# Altium integrated library Analog Devices Data Converters Digital-to-Analog Converters.IntLib: 2231 symbols (part 145 of 181)
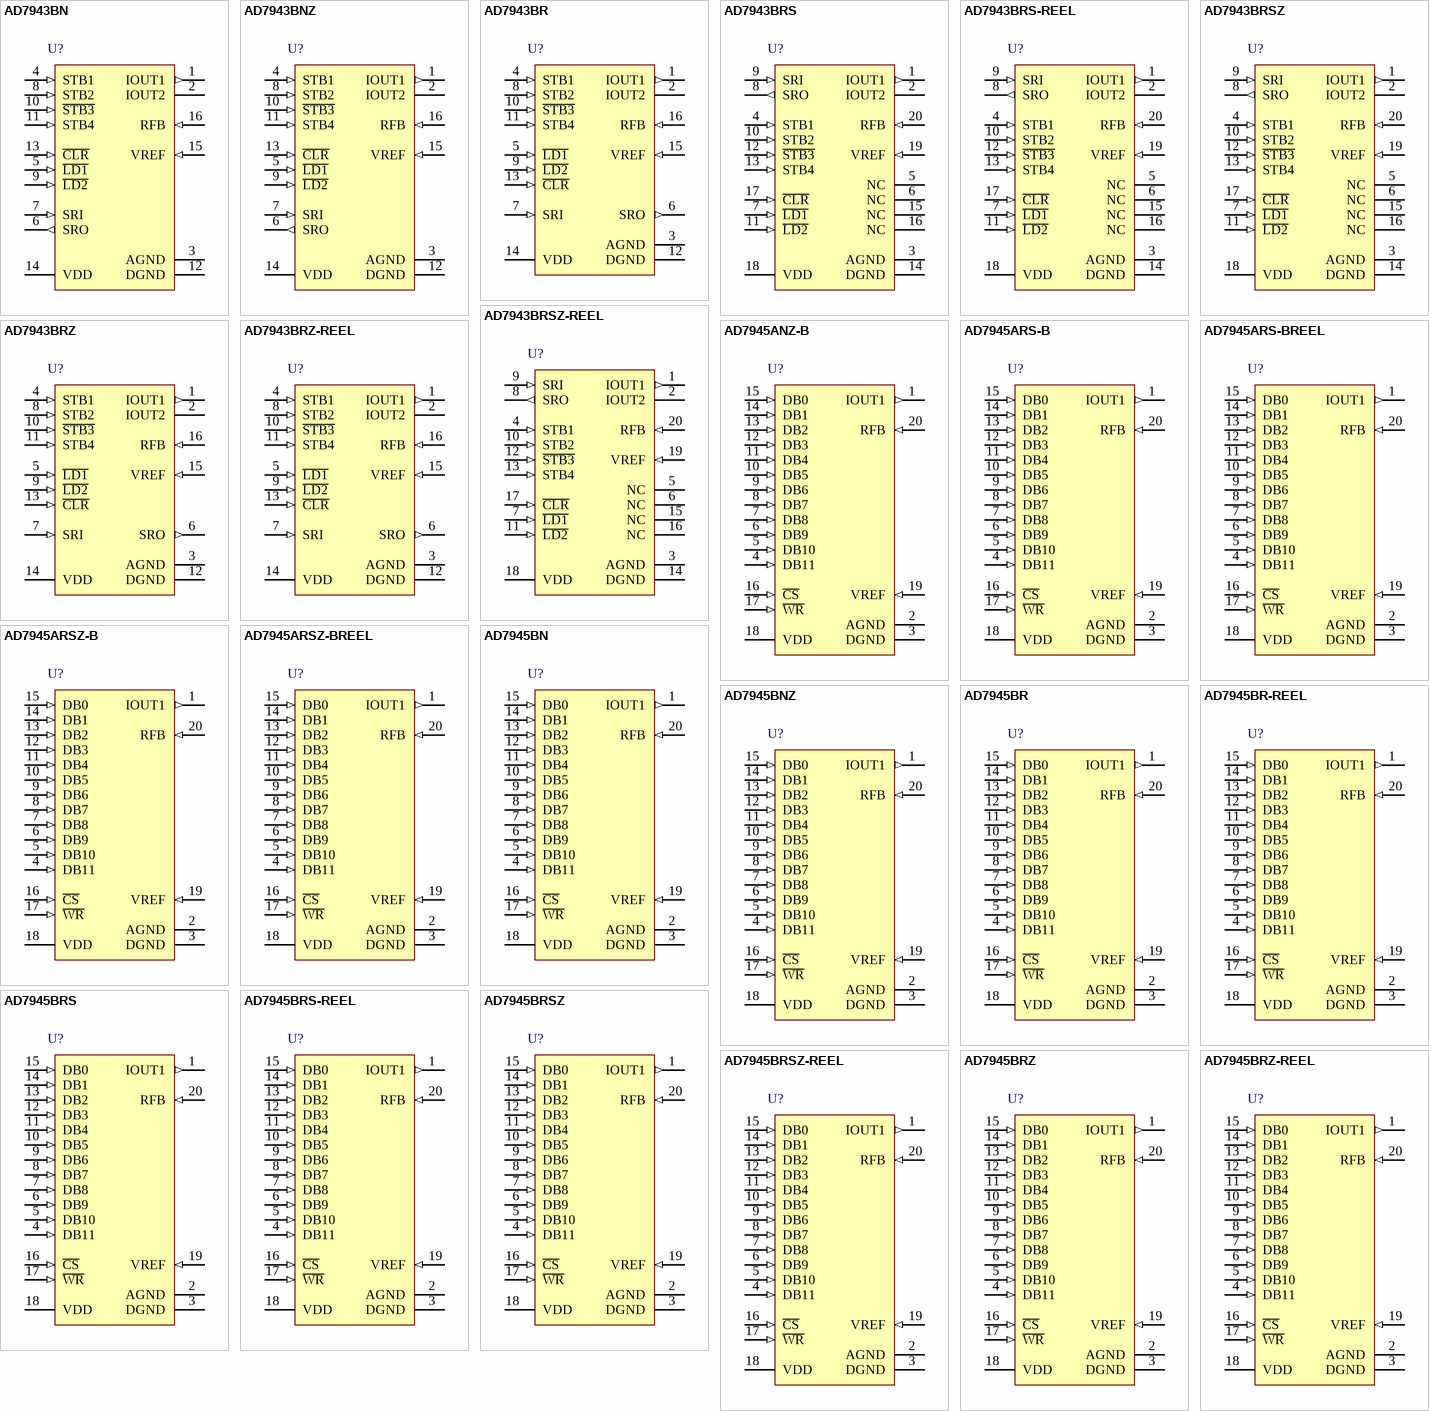
[diagram p258: symbols AD7943BN to AD7945BRZ-REEL]

## AD7945BRS-REEL
designator U?
Single 12-Bit Multiplying Digital-to-Analog Converter, 3.3 V / 5 V, -40 to +85 degC, RS-20, Reel; Generic Part Number: AD7945; Manufacturer: Analog Devices; PartNumber: AD7945BRS-REEL; # DAC Outputs: 1; Max V+: 5.5V; Op Pwr Diss: 25µW; Resolution (Bits): 12; Settling Time: 600ns; Single Supply: Yes; DatasheetVersion: Rev.B; PackageVersion: Mar-2003; PackageReference: RS-20; PackageDescription: 20-Lead Shrink Small Outline Package [SSOP]; Supplier 1: Digi-Key; Supplier Part Number 1: AD7945BRS-REEL-ND; Supplier 2: Newark; Supplier Part Number 2: 09B6310; Supplier 3: Mouser; Supplier Part Number 3: 584-AD7945BRS-R; Packing: Reel; RoHS: N; Mounting Technology: Surface Mount; Code_JEDEC: MO-150AE; ComponentLink1Description: Manufacturer URL; ComponentLink1URL: http://www.analog.com/en/index.html; ComponentLink2Description: Datasheet; ComponentLink2URL: http://www.analog.com/static/imported-files/data_sheets/AD7943_7945_7948.pdf; ComponentLink3Description: Package Specification; ComponentLink3URL: http://www.analog.com/static/imported-files/packages/318405805657546556503576154334802686596RS_20.pdf; ComponentLink4Description: Product URL; ComponentLink4URL: http://www.analog.com/en/digital-to-analog-converters/da-converters/ad7945/products/product.html
footprint RS-20_N (SOP, 20-Leads, Body 7.2x5.3mm, Pitch 0.65mm, IPC Medium Density)
footprint RS-20_L (SOP, 20-Leads, Body 7.2x5.3mm, Pitch 0.65mm, IPC High Density)
footprint RS-20_M (SOP, 20-Leads, Body 7.2x5.3mm, Pitch 0.65mm, IPC Low Density)
pins: 1 IOUT1 (out) "DAC current output terminal 1.", 2 AGND (power) "This pin connects to the back gates of the current steering switches. The DAC IOUT2 terminal is also connected internally to this point.", 3 DGND (power) "Digital Ground.", 4 DB11 (in) "Digital Data Input.", 5 DB10 (in) "Digital Data Input.", 6 DB9 (in) "Digital Data Input.", 7 DB8 (in) "Digital Data Input.", 8 DB7 (in) "Digital Data Input.", 9 DB6 (in) "Digital Data Input.", 10 DB5 (in) "Digital Data Input.", 11 DB4 (in) "Digital Data Input.", 12 DB3 (in) "Digital Data Input.", 13 DB2 (in) "Digital Data Input.", 14 DB1 (in) "Digital Data Input.", 15 DB0 (in) "Digital Data Input.", 16 ~{CS} (in) "Active Low, Chip Select Input.", 17 ~{WR} (in) "Active Low, Write Input.", 18 VDD (power) "Power supply input. This is nominally +5 V for Normal Mode Operation and +3.3 V to +5 V for Biased Mode Operation.", 19 VREF (in) "DAC reference input.", 20 RFB (in) "DAC feedback resistor pin."

## AD7945BRSZ
designator U?
Single 12-Bit Multiplying Digital-to-Analog Converter, 3.3 V / 5 V, 0 to +70 degC, RS-20, Pb-Free, Tube; Generic Part Number: AD7945; Manufacturer: Analog Devices; PartNumber: AD7945BRSZ; # DAC Outputs: 1; Max V+: 5.5V; Op Pwr Diss: 25µW; Resolution (Bits): 12; Settling Time: 600ns; Single Supply: Yes; DatasheetVersion: Rev.B; PackageVersion: Mar-2003; PackageReference: RS-20; PackageDescription: 20-Lead Shrink Small Outline Package [SSOP]; Supplier 1: Digi-Key; Supplier Part Number 1: AD7945BRSZ-ND; Supplier 2: Farnell; Supplier Part Number 2: 2305692; Supplier 3: Newark; Supplier Part Number 3: 59K6071; Supplier 4: Mouser; Supplier Part Number 4: 584-AD7945BRSZ; Packing: Tube; RoHS: Y; Mounting Technology: Surface Mount; Code_JEDEC: MO-150AE; ComponentLink1Description: Manufacturer URL; ComponentLink1URL: http://www.analog.com/en/index.html; ComponentLink2Description: Datasheet; ComponentLink2URL: http://www.analog.com/static/imported-files/data_sheets/AD7943_7945_7948.pdf; ComponentLink3Description: Package Specification; ComponentLink3URL: http://www.analog.com/static/imported-files/packages/318405805657546556503576154334802686596RS_20.pdf; ComponentLink4Description: Product URL; ComponentLink4URL: http://www.analog.com/en/digital-to-analog-converters/da-converters/ad7945/products/product.html
footprint RS-20_N (SOP, 20-Leads, Body 7.2x5.3mm, Pitch 0.65mm, IPC Medium Density)
footprint RS-20_L (SOP, 20-Leads, Body 7.2x5.3mm, Pitch 0.65mm, IPC High Density)
footprint RS-20_M (SOP, 20-Leads, Body 7.2x5.3mm, Pitch 0.65mm, IPC Low Density)
pins: 1 IOUT1 (out) "DAC current output terminal 1.", 2 AGND (power) "This pin connects to the back gates of the current steering switches. The DAC IOUT2 terminal is also connected internally to this point.", 3 DGND (power) "Digital Ground.", 4 DB11 (in) "Digital Data Input.", 5 DB10 (in) "Digital Data Input.", 6 DB9 (in) "Digital Data Input.", 7 DB8 (in) "Digital Data Input.", 8 DB7 (in) "Digital Data Input.", 9 DB6 (in) "Digital Data Input.", 10 DB5 (in) "Digital Data Input.", 11 DB4 (in) "Digital Data Input.", 12 DB3 (in) "Digital Data Input.", 13 DB2 (in) "Digital Data Input.", 14 DB1 (in) "Digital Data Input.", 15 DB0 (in) "Digital Data Input.", 16 ~{CS} (in) "Active Low, Chip Select Input.", 17 ~{WR} (in) "Active Low, Write Input.", 18 VDD (power) "Power supply input. This is nominally +5 V for Normal Mode Operation and +3.3 V to +5 V for Biased Mode Operation.", 19 VREF (in) "DAC reference input.", 20 RFB (in) "DAC feedback resistor pin."

## AD7945BRSZ-REEL
designator U?
Single 12-Bit Multiplying Digital-to-Analog Converter, 3.3 V / 5 V, 0 to +70 degC, RS-20, Pb-Free, Reel; Generic Part Number: AD7945; Manufacturer: Analog Devices; PartNumber: AD7945BRSZ-REEL; # DAC Outputs: 1; Max V+: 5.5V; Op Pwr Diss: 25µW; Resolution (Bits): 12; Settling Time: 600ns; Single Supply: Yes; DatasheetVersion: Rev.B; PackageVersion: Mar-2003; PackageReference: RS-20; PackageDescription: 20-Lead Shrink Small Outline Package [SSOP]; Supplier 1: Digi-Key; Supplier Part Number 1: AD7945BRSZ-REELTR-ND; Supplier 2: Digi-Key; Supplier Part Number 2: AD7945BRSZ-REELCT-ND; Supplier 3: Digi-Key; Supplier Part Number 3: AD7945BRSZ-REELDKR-ND; Supplier 4: Newark; Supplier Part Number 4: 59K6072; Supplier 5: Mouser; Supplier Part Number 5: 584-AD7945BRSZ-R; Packing: Reel; RoHS: Y; Mounting Technology: Surface Mount; Code_JEDEC: MO-150AE; ComponentLink1Description: Manufacturer URL; ComponentLink1URL: http://www.analog.com/en/index.html; ComponentLink2Description: Datasheet; ComponentLink2URL: http://www.analog.com/static/imported-files/data_sheets/AD7943_7945_7948.pdf; ComponentLink3Description: Package Specification; ComponentLink3URL: http://www.analog.com/static/imported-files/packages/318405805657546556503576154334802686596RS_20.pdf; ComponentLink4Description: Product URL; ComponentLink4URL: http://www.analog.com/en/digital-to-analog-converters/da-converters/ad7945/products/product.html
footprint RS-20_N (SOP, 20-Leads, Body 7.2x5.3mm, Pitch 0.65mm, IPC Medium Density)
footprint RS-20_L (SOP, 20-Leads, Body 7.2x5.3mm, Pitch 0.65mm, IPC High Density)
footprint RS-20_M (SOP, 20-Leads, Body 7.2x5.3mm, Pitch 0.65mm, IPC Low Density)
pins: 1 IOUT1 (out) "DAC current output terminal 1.", 2 AGND (power) "This pin connects to the back gates of the current steering switches. The DAC IOUT2 terminal is also connected internally to this point.", 3 DGND (power) "Digital Ground.", 4 DB11 (in) "Digital Data Input.", 5 DB10 (in) "Digital Data Input.", 6 DB9 (in) "Digital Data Input.", 7 DB8 (in) "Digital Data Input.", 8 DB7 (in) "Digital Data Input.", 9 DB6 (in) "Digital Data Input.", 10 DB5 (in) "Digital Data Input.", 11 DB4 (in) "Digital Data Input.", 12 DB3 (in) "Digital Data Input.", 13 DB2 (in) "Digital Data Input.", 14 DB1 (in) "Digital Data Input.", 15 DB0 (in) "Digital Data Input.", 16 ~{CS} (in) "Active Low, Chip Select Input.", 17 ~{WR} (in) "Active Low, Write Input.", 18 VDD (power) "Power supply input. This is nominally +5 V for Normal Mode Operation and +3.3 V to +5 V for Biased Mode Operation.", 19 VREF (in) "DAC reference input.", 20 RFB (in) "DAC feedback resistor pin."

## AD7945BRZ
designator U?
Single 12-Bit Multiplying Digital-to-Analog Converter, 3.3 V / 5 V, 0 to +70 degC, RW-20, Pb-Free, Tube; Generic Part Number: AD7945; Manufacturer: Analog Devices; PartNumber: AD7945BRZ; # DAC Outputs: 1; Max V+: 5.5V; Op Pwr Diss: 25µW; Resolution (Bits): 12; Settling Time: 600ns; Single Supply: Yes; DatasheetVersion: Rev.B; PackageVersion: 060706-A; PackageReference: RW-20; PackageDescription: 20-Lead Standard Small Outline Package [SOIC_W] Wide Body; Supplier 1: Digi-Key; Supplier Part Number 1: AD7945BRZ-ND; Supplier 2: Farnell; Supplier Part Number 2: 2305693; Supplier 3: Newark; Supplier Part Number 3: 19M8864; Supplier 4: Mouser; Supplier Part Number 4: 584-AD7945BRZ; Packing: Tube; RoHS: Y; Mounting Technology: Surface Mount; Code_JEDEC: MS-013-AC; ComponentLink1Description: Manufacturer URL; ComponentLink1URL: http://www.analog.com/en/index.html; ComponentLink2Description: Datasheet; ComponentLink2URL: http://www.analog.com/static/imported-files/data_sheets/AD7943_7945_7948.pdf; ComponentLink3Description: Package Specification; ComponentLink3URL: http://www.analog.com/static/imported-files/packages/233848RW_20.pdf; ComponentLink4Description: Product URL; ComponentLink4URL: http://www.analog.com/en/digital-to-analog-converters/da-converters/ad7945/products/product.html
footprint RW-20_N (SOIC, 20-Leads, Body 12.8x7.5mm, Pitch 1.27mm, IPC Medium Density)
footprint RW-20_L (SOIC, 20-Leads, Body 12.8x7.5mm, Pitch 1.27mm, IPC High Density)
footprint RW-20_M (SOIC, 20-Leads, Body 12.8x7.5mm, Pitch 1.27mm, IPC Low Density)
pins: 1 IOUT1 (out) "DAC current output terminal 1.", 2 AGND (power) "This pin connects to the back gates of the current steering switches. The DAC IOUT2 terminal is also connected internally to this point.", 3 DGND (power) "Digital Ground.", 4 DB11 (in) "Digital Data Input.", 5 DB10 (in) "Digital Data Input.", 6 DB9 (in) "Digital Data Input.", 7 DB8 (in) "Digital Data Input.", 8 DB7 (in) "Digital Data Input.", 9 DB6 (in) "Digital Data Input.", 10 DB5 (in) "Digital Data Input.", 11 DB4 (in) "Digital Data Input.", 12 DB3 (in) "Digital Data Input.", 13 DB2 (in) "Digital Data Input.", 14 DB1 (in) "Digital Data Input.", 15 DB0 (in) "Digital Data Input.", 16 ~{CS} (in) "Active Low, Chip Select Input.", 17 ~{WR} (in) "Active Low, Write Input.", 18 VDD (power) "Power supply input. This is nominally +5 V for Normal Mode Operation and +3.3 V to +5 V for Biased Mode Operation.", 19 VREF (in) "DAC reference input.", 20 RFB (in) "DAC feedback resistor pin."

## AD7945BRZ-REEL
designator U?
Single 12-Bit Multiplying Digital-to-Analog Converter, 3.3 V / 5 V, 0 to +70 degC, RW-20, Pb-Free, Reel; Generic Part Number: AD7945; Manufacturer: Analog Devices; PartNumber: AD7945BRZ-REEL; # DAC Outputs: 1; Max V+: 5.5V; Op Pwr Diss: 25µW; Resolution (Bits): 12; Settling Time: 600ns; Single Supply: Yes; DatasheetVersion: Rev.B; PackageVersion: 060706-A; PackageReference: RW-20; PackageDescription: 20-Lead Standard Small Outline Package [SOIC_W] Wide Body; Supplier 1: Digi-Key; Supplier Part Number 1: AD7945BRZ-REELTR-ND; Supplier 2: Digi-Key; Supplier Part Number 2: AD7945BRZ-REELCT-ND; Supplier 3: Digi-Key; Supplier Part Number 3: AD7945BRZ-REELDKR-ND; Supplier 4: Newark; Supplier Part Number 4: 59K6074; Supplier 5: Mouser; Supplier Part Number 5: 584-AD7945BRZ-R; Packing: Reel; RoHS: Y; Mounting Technology: Surface Mount; Code_JEDEC: MS-013-AC; ComponentLink1Description: Manufacturer URL; ComponentLink1URL: http://www.analog.com/en/index.html; ComponentLink2Description: Datasheet; ComponentLink2URL: http://www.analog.com/static/imported-files/data_sheets/AD7943_7945_7948.pdf; ComponentLink3Description: Package Specification; ComponentLink3URL: http://www.analog.com/static/imported-files/packages/233848RW_20.pdf; ComponentLink4Description: Product URL; ComponentLink4URL: http://www.analog.com/en/digital-to-analog-converters/da-converters/ad7945/products/product.html
footprint RW-20_N (SOIC, 20-Leads, Body 12.8x7.5mm, Pitch 1.27mm, IPC Medium Density)
footprint RW-20_L (SOIC, 20-Leads, Body 12.8x7.5mm, Pitch 1.27mm, IPC High Density)
footprint RW-20_M (SOIC, 20-Leads, Body 12.8x7.5mm, Pitch 1.27mm, IPC Low Density)
pins: 1 IOUT1 (out) "DAC current output terminal 1.", 2 AGND (power) "This pin connects to the back gates of the current steering switches. The DAC IOUT2 terminal is also connected internally to this point.", 3 DGND (power) "Digital Ground.", 4 DB11 (in) "Digital Data Input.", 5 DB10 (in) "Digital Data Input.", 6 DB9 (in) "Digital Data Input.", 7 DB8 (in) "Digital Data Input.", 8 DB7 (in) "Digital Data Input.", 9 DB6 (in) "Digital Data Input.", 10 DB5 (in) "Digital Data Input.", 11 DB4 (in) "Digital Data Input.", 12 DB3 (in) "Digital Data Input.", 13 DB2 (in) "Digital Data Input.", 14 DB1 (in) "Digital Data Input.", 15 DB0 (in) "Digital Data Input.", 16 ~{CS} (in) "Active Low, Chip Select Input.", 17 ~{WR} (in) "Active Low, Write Input.", 18 VDD (power) "Power supply input. This is nominally +5 V for Normal Mode Operation and +3.3 V to +5 V for Biased Mode Operation.", 19 VREF (in) "DAC reference input.", 20 RFB (in) "DAC feedback resistor pin."

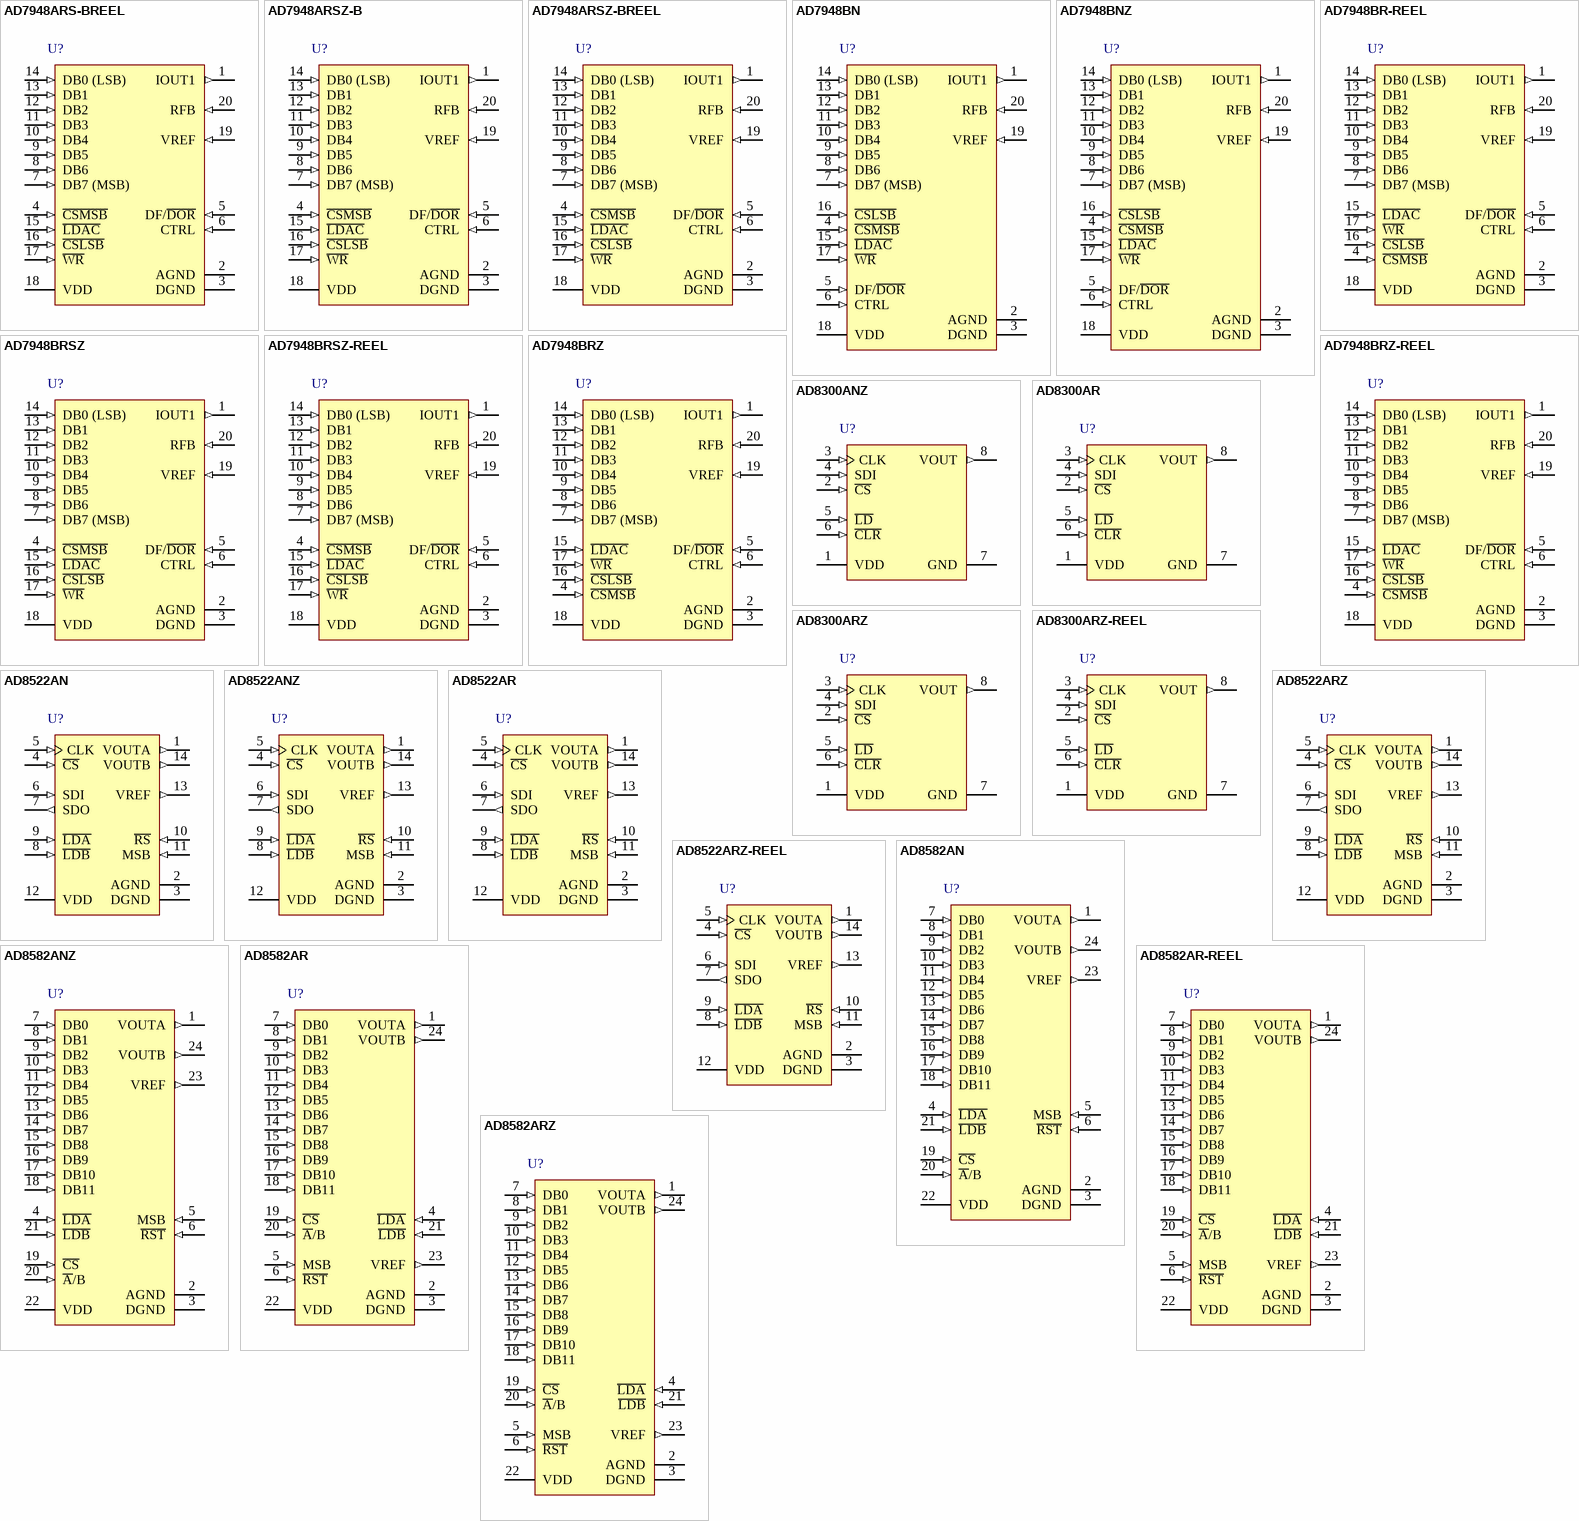
[diagram p81: symbols AD7948ARS-BREEL to AD8582ARZ]

## AD7948ARS-BREEL
designator U?
Single 12-Bit Multiplying Digital-to-Analog Converter, 3.3 V / 5 V, -40 to +85 degC, RS-20, Reel; Generic Part Number: AD7948; Manufacturer: Analog Devices; PartNumber: AD7948ARS-BREEL; # DAC Outputs: 1; Max V+: 5.5V; Op Pwr Diss: 25µW; Resolution (Bits): 12; Settling Time: 600ns; Single Supply: Yes; DatasheetVersion: Rev.B; PackageVersion: Mar-2003; PackageReference: RS-20; PackageDescription: 20-Lead Shrink Small Outline Package [SSOP]; Supplier 1: Digi-Key; Supplier Part Number 1: AD7948ARS-BREELTR-ND; Supplier 2: Digi-Key; Supplier Part Number 2: AD7948ARS-BREELCT-ND; Supplier 3: Digi-Key; Supplier Part Number 3: AD7948ARS-BREELDKR-ND; Supplier 4: Mouser; Supplier Part Number 4: 584-AD7948ARS-BR; Packing: Reel; RoHS: N; Mounting Technology: Surface Mount; Code_JEDEC: MO-150AE; ComponentLink1Description: Manufacturer URL; ComponentLink1URL: http://www.analog.com/en/index.html; ComponentLink2Description: Datasheet; ComponentLink2URL: http://www.analog.com/static/imported-files/data_sheets/AD7943_7945_7948.pdf; ComponentLink3Description: Package Specification; ComponentLink3URL: http://www.analog.com/static/imported-files/packages/318405805657546556503576154334802686596RS_20.pdf; ComponentLink4Description: Product URL; ComponentLink4URL: http://www.analog.com/en/digital-to-analog-converters/da-converters/ad7948/products/product.html
footprint RS-20_N (SOP, 20-Leads, Body 7.2x5.3mm, Pitch 0.65mm, IPC Medium Density)
footprint RS-20_L (SOP, 20-Leads, Body 7.2x5.3mm, Pitch 0.65mm, IPC High Density)
footprint RS-20_M (SOP, 20-Leads, Body 7.2x5.3mm, Pitch 0.65mm, IPC Low Density)
pins: 1 IOUT1 (out) "DAC current output terminal 1. Normally terminated at the virtual ground of output amplifier.", 2 AGND (power) "Analog Ground Pin. This pin connects to the back gates of the current steering switches. The DAC IOUT2 terminal is also connected internally to this point.", 3 DGND (power) "Digital Ground Pin.", 4 ~{CSMSB} (in) "Chip Select Most Significant Byte. Active Low Input. Used in combination with W\R\ to load external data into the input register or in combination with L\D\A\C\ and W\R\ to load external data into both input and DAC (See Datasheet)", 5 DF/~{DOR} (in) "Data Format/Data Override. When this input is low, data in the DAC register is forced to one of two override codes selected by CTRL. When the override signal is removed, the DAC output returns to reflect the value in the DAC (See Datasheet)", 6 CTRL (in) "Control Input. See DF/D\O\R\ description.", 7 DB7 (MSB) (in) "Digital Data Input", 8 DB6 (in) "Digital Data Input", 9 DB5 (in) "Digital Data Input", 10 DB4 (in) "Digital Data Input", 11 DB3 (in) "Digital Data Input", 12 DB2 (in) "Digital Data Input", 13 DB1 (in) "Digital Data Input", 14 DB0 (LSB) (in) "Digital Data Input", 15 ~{LDAC} (in) "Load DAC input, active low. This signal, in combination with others, is used to load the DAC register from either the input register or the external data bus.", 16 ~{CSLSB} (in) "Chip Select Least Significant (LS) Byte. Active Low Input. Used in combination with W\R\ to load external data into the input register or in combination with W\R\ and L\D\A\C\ to load external data into both input and DAC (See Datasheet)", 17 ~{WR} (in) "Write input, active low. This active low signal, in combination with others is used in loading external data into the AD7948 input register and in transferring data from the input register to the DAC register.", 18 VDD (power) "Power supply input. This is nominally +5 V for Normal Mode Operation and +3.3 V to +5 V for Biased Mode Operation.", 19 VREF (in) "DAC reference input.", 20 RFB (in) "DAC feedback resistor pin."

## AD7948ARSZ-B
designator U?
Single 12-Bit Multiplying Digital-to-Analog Converter, 3.3 V / 5 V, -40 to +85 degC, RS-20, Pb-Free, Tube; Generic Part Number: AD7948; Manufacturer: Analog Devices; PartNumber: AD7948ARSZ-B; # DAC Outputs: 1; Max V+: 5.5V; Op Pwr Diss: 25µW; Resolution (Bits): 12; Settling Time: 600ns; Single Supply: Yes; DatasheetVersion: Rev.B; PackageVersion: Mar-2003; PackageReference: RS-20; PackageDescription: 20-Lead Shrink Small Outline Package [SSOP]; Supplier 1: Digi-Key; Supplier Part Number 1: AD7948ARSZ-B-ND; Supplier 2: Mouser; Supplier Part Number 2: 584-AD7948ARSZ-B; Packing: Tube; RoHS: Y; Mounting Technology: Surface Mount; Code_JEDEC: MO-150AE; ComponentLink1Description: Manufacturer URL; ComponentLink1URL: http://www.analog.com/en/index.html; ComponentLink2Description: Datasheet; ComponentLink2URL: http://www.analog.com/static/imported-files/data_sheets/AD7943_7945_7948.pdf; ComponentLink3Description: Package Specification; ComponentLink3URL: http://www.analog.com/static/imported-files/packages/318405805657546556503576154334802686596RS_20.pdf; ComponentLink4Description: Product URL; ComponentLink4URL: http://www.analog.com/en/digital-to-analog-converters/da-converters/ad7948/products/product.html
footprint RS-20_N (SOP, 20-Leads, Body 7.2x5.3mm, Pitch 0.65mm, IPC Medium Density)
footprint RS-20_L (SOP, 20-Leads, Body 7.2x5.3mm, Pitch 0.65mm, IPC High Density)
footprint RS-20_M (SOP, 20-Leads, Body 7.2x5.3mm, Pitch 0.65mm, IPC Low Density)
pins: 1 IOUT1 (out) "DAC current output terminal 1. Normally terminated at the virtual ground of output amplifier.", 2 AGND (power) "Analog Ground Pin. This pin connects to the back gates of the current steering switches. The DAC IOUT2 terminal is also connected internally to this point.", 3 DGND (power) "Digital Ground Pin.", 4 ~{CSMSB} (in) "Chip Select Most Significant Byte. Active Low Input. Used in combination with W\R\ to load external data into the input register or in combination with L\D\A\C\ and W\R\ to load external data into both input and DAC (See Datasheet)", 5 DF/~{DOR} (in) "Data Format/Data Override. When this input is low, data in the DAC register is forced to one of two override codes selected by CTRL. When the override signal is removed, the DAC output returns to reflect the value in the DAC (See Datasheet)", 6 CTRL (in) "Control Input. See DF/D\O\R\ description.", 7 DB7 (MSB) (in) "Digital Data Input", 8 DB6 (in) "Digital Data Input", 9 DB5 (in) "Digital Data Input", 10 DB4 (in) "Digital Data Input", 11 DB3 (in) "Digital Data Input", 12 DB2 (in) "Digital Data Input", 13 DB1 (in) "Digital Data Input", 14 DB0 (LSB) (in) "Digital Data Input", 15 ~{LDAC} (in) "Load DAC input, active low. This signal, in combination with others, is used to load the DAC register from either the input register or the external data bus.", 16 ~{CSLSB} (in) "Chip Select Least Significant (LS) Byte. Active Low Input. Used in combination with W\R\ to load external data into the input register or in combination with W\R\ and L\D\A\C\ to load external data into both input and DAC (See Datasheet)", 17 ~{WR} (in) "Write input, active low. This active low signal, in combination with others is used in loading external data into the AD7948 input register and in transferring data from the input register to the DAC register.", 18 VDD (power) "Power supply input. This is nominally +5 V for Normal Mode Operation and +3.3 V to +5 V for Biased Mode Operation.", 19 VREF (in) "DAC reference input.", 20 RFB (in) "DAC feedback resistor pin."

## AD7948ARSZ-BREEL
designator U?
Single 12-Bit Multiplying Digital-to-Analog Converter, 3.3 V / 5 V, -40 to +85 degC, RS-20, Pb-Free, Reel; Generic Part Number: AD7948; Manufacturer: Analog Devices; PartNumber: AD7948ARSZ-BREEL; # DAC Outputs: 1; Max V+: 5.5V; Op Pwr Diss: 25µW; Resolution (Bits): 12; Settling Time: 600ns; Single Supply: Yes; DatasheetVersion: Rev.B; PackageVersion: Mar-2003; PackageReference: RS-20; PackageDescription: 20-Lead Shrink Small Outline Package [SSOP]; Supplier 1: Digi-Key; Supplier Part Number 1: AD7948ARSZ-BREEL-ND; Supplier 2: Mouser; Supplier Part Number 2: 584-AD7948ARSZ-BR; Packing: Reel; RoHS: Y; Mounting Technology: Surface Mount; Code_JEDEC: MO-150AE; ComponentLink1Description: Manufacturer URL; ComponentLink1URL: http://www.analog.com/en/index.html; ComponentLink2Description: Datasheet; ComponentLink2URL: http://www.analog.com/static/imported-files/data_sheets/AD7943_7945_7948.pdf; ComponentLink3Description: Package Specification; ComponentLink3URL: http://www.analog.com/static/imported-files/packages/318405805657546556503576154334802686596RS_20.pdf; ComponentLink4Description: Product URL; ComponentLink4URL: http://www.analog.com/en/digital-to-analog-converters/da-converters/ad7948/products/product.html
footprint RS-20_N (SOP, 20-Leads, Body 7.2x5.3mm, Pitch 0.65mm, IPC Medium Density)
footprint RS-20_L (SOP, 20-Leads, Body 7.2x5.3mm, Pitch 0.65mm, IPC High Density)
footprint RS-20_M (SOP, 20-Leads, Body 7.2x5.3mm, Pitch 0.65mm, IPC Low Density)
pins: 1 IOUT1 (out) "DAC current output terminal 1. Normally terminated at the virtual ground of output amplifier.", 2 AGND (power) "Analog Ground Pin. This pin connects to the back gates of the current steering switches. The DAC IOUT2 terminal is also connected internally to this point.", 3 DGND (power) "Digital Ground Pin.", 4 ~{CSMSB} (in) "Chip Select Most Significant Byte. Active Low Input. Used in combination with W\R\ to load external data into the input register or in combination with L\D\A\C\ and W\R\ to load external data into both input and DAC (See Datasheet)", 5 DF/~{DOR} (in) "Data Format/Data Override. When this input is low, data in the DAC register is forced to one of two override codes selected by CTRL. When the override signal is removed, the DAC output returns to reflect the value in the DAC (See Datasheet)", 6 CTRL (in) "Control Input. See DF/D\O\R\ description.", 7 DB7 (MSB) (in) "Digital Data Input", 8 DB6 (in) "Digital Data Input", 9 DB5 (in) "Digital Data Input", 10 DB4 (in) "Digital Data Input", 11 DB3 (in) "Digital Data Input", 12 DB2 (in) "Digital Data Input", 13 DB1 (in) "Digital Data Input", 14 DB0 (LSB) (in) "Digital Data Input", 15 ~{LDAC} (in) "Load DAC input, active low. This signal, in combination with others, is used to load the DAC register from either the input register or the external data bus.", 16 ~{CSLSB} (in) "Chip Select Least Significant (LS) Byte. Active Low Input. Used in combination with W\R\ to load external data into the input register or in combination with W\R\ and L\D\A\C\ to load external data into both input and DAC (See Datasheet)", 17 ~{WR} (in) "Write input, active low. This active low signal, in combination with others is used in loading external data into the AD7948 input register and in transferring data from the input register to the DAC register.", 18 VDD (power) "Power supply input. This is nominally +5 V for Normal Mode Operation and +3.3 V to +5 V for Biased Mode Operation.", 19 VREF (in) "DAC reference input.", 20 RFB (in) "DAC feedback resistor pin."

## AD7948BN
designator U?
Single 12-Bit Multiplying Digital-to-Analog Converter, 3.3 V / 5 V, -40 to +85 degC, N-20, Tube; Generic Part Number: AD7948; Manufacturer: Analog Devices; PartNumber: AD7948BN; # DAC Outputs: 1; Max V+: 5.5V; Op Pwr Diss: 25µW; Resolution (Bits): 12; Settling Time: 600ns; Single Supply: Yes; DatasheetVersion: Rev.B; PackageVersion: 070706-A; PackageReference: N-20; PackageDescription: 20-Lead Plastic Dual In-Line Package [PDIP] Narrow Body; Supplier 1: Digi-Key; Supplier Part Number 1: AD7948BN-ND; Supplier 2: Mouser; Supplier Part Number 2: 584-AD7948BN; Packing: Tube; RoHS: N; Mounting Technology: Through Hole; Code_JEDEC: MS-001; ComponentLink1Description: Manufacturer URL; ComponentLink1URL: http://www.analog.com/en/index.html; ComponentLink2Description: Datasheet; ComponentLink2URL: http://www.analog.com/static/imported-files/data_sheets/AD7943_7945_7948.pdf; ComponentLink3Description: Package Specification; ComponentLink3URL: http://www.analog.com/static/imported-files/packages/50601349676519N_20.pdf; ComponentLink4Description: Product URL; ComponentLink4URL: http://www.analog.com/en/digital-to-analog-converters/da-converters/ad7948/products/product.html
footprint N-20 (DIP, 20-Leads, Row Spacing 7.62mm, Pitch 2.54mm, Body 25.9x6.6mm)
pins: 1 IOUT1 (out) "DAC current output terminal 1. Normally terminated at the virtual ground of output amplifier.", 2 AGND (power) "Analog Ground Pin. This pin connects to the back gates of the current steering switches. The DAC IOUT2 terminal is also connected internally to this point.", 3 DGND (power) "Digital Ground Pin.", 4 ~{CSMSB} (in) "Chip Select Most Significant Byte. Active Low Input. Used in combination with W\R\ to load external data into the input register or in combination with L\D\A\C\ and W\R\ to load external data into both input and DAC (See Datasheet)", 5 DF/~{DOR} (in) "Data Format/Data Override. When this input is low, data in the DAC register is forced to one of two override codes selected by CTRL. When the override signal is removed, the DAC output returns to reflect the value in the DAC (See Datasheet)", 6 CTRL (in) "Control Input. See DF/D\O\R\ description.", 7 DB7 (MSB) (in) "Digital Data Input", 8 DB6 (in) "Digital Data Input", 9 DB5 (in) "Digital Data Input", 10 DB4 (in) "Digital Data Input", 11 DB3 (in) "Digital Data Input", 12 DB2 (in) "Digital Data Input", 13 DB1 (in) "Digital Data Input", 14 DB0 (LSB) (in) "Digital Data Input", 15 ~{LDAC} (in) "Load DAC input, active low. This signal, in combination with others, is used to load the DAC register from either the input register or the external data bus.", 16 ~{CSLSB} (in) "Chip Select Least Significant (LS) Byte. Active Low Input. Used in combination with W\R\ to load external data into the input register or in combination with W\R\ and L\D\A\C\ to load external data into both input and DAC (See Datasheet)", 17 ~{WR} (in) "Write input, active low. This active low signal, in combination with others is used in loading external data into the AD7948 input register and in transferring data from the input register to the DAC register.", 18 VDD (power) "Power supply input. This is nominally +5 V for Normal Mode Operation and +3.3 V to +5 V for Biased Mode Operation.", 19 VREF (in) "DAC reference input.", 20 RFB (in) "DAC feedback resistor pin."

## AD7948BNZ
designator U?
Single 12-Bit Multiplying Digital-to-Analog Converter, 3.3 V / 5 V, -40 to +85 degC, N-20, Pb-Free, Tube; Generic Part Number: AD7948; Manufacturer: Analog Devices; PartNumber: AD7948BNZ; # DAC Outputs: 1; Max V+: 5.5V; Op Pwr Diss: 25µW; Resolution (Bits): 12; Settling Time: 600ns; Single Supply: Yes; DatasheetVersion: Rev.B; PackageVersion: 070706-A; PackageReference: N-20; PackageDescription: 20-Lead Plastic Dual In-Line Package [PDIP] Narrow Body; Supplier 1: Digi-Key; Supplier Part Number 1: AD7948BNZ-ND; Supplier 2: Mouser; Supplier Part Number 2: 584-AD7948BNZ; Packing: Tube; RoHS: Y; Mounting Technology: Through Hole; Code_JEDEC: MS-001; ComponentLink1Description: Manufacturer URL; ComponentLink1URL: http://www.analog.com/en/index.html; ComponentLink2Description: Datasheet; ComponentLink2URL: http://www.analog.com/static/imported-files/data_sheets/AD7943_7945_7948.pdf; ComponentLink3Description: Package Specification; ComponentLink3URL: http://www.analog.com/static/imported-files/packages/50601349676519N_20.pdf; ComponentLink4Description: Product URL; ComponentLink4URL: http://www.analog.com/en/digital-to-analog-converters/da-converters/ad7948/products/product.html
footprint N-20 (DIP, 20-Leads, Row Spacing 7.62mm, Pitch 2.54mm, Body 25.9x6.6mm)
pins: 1 IOUT1 (out) "DAC current output terminal 1. Normally terminated at the virtual ground of output amplifier.", 2 AGND (power) "Analog Ground Pin. This pin connects to the back gates of the current steering switches. The DAC IOUT2 terminal is also connected internally to this point.", 3 DGND (power) "Digital Ground Pin.", 4 ~{CSMSB} (in) "Chip Select Most Significant Byte. Active Low Input. Used in combination with W\R\ to load external data into the input register or in combination with L\D\A\C\ and W\R\ to load external data into both input and DAC (See Datasheet)", 5 DF/~{DOR} (in) "Data Format/Data Override. When this input is low, data in the DAC register is forced to one of two override codes selected by CTRL. When the override signal is removed, the DAC output returns to reflect the value in the DAC (See Datasheet)", 6 CTRL (in) "Control Input. See DF/D\O\R\ description.", 7 DB7 (MSB) (in) "Digital Data Input", 8 DB6 (in) "Digital Data Input", 9 DB5 (in) "Digital Data Input", 10 DB4 (in) "Digital Data Input", 11 DB3 (in) "Digital Data Input", 12 DB2 (in) "Digital Data Input", 13 DB1 (in) "Digital Data Input", 14 DB0 (LSB) (in) "Digital Data Input", 15 ~{LDAC} (in) "Load DAC input, active low. This signal, in combination with others, is used to load the DAC register from either the input register or the external data bus.", 16 ~{CSLSB} (in) "Chip Select Least Significant (LS) Byte. Active Low Input. Used in combination with W\R\ to load external data into the input register or in combination with W\R\ and L\D\A\C\ to load external data into both input and DAC (See Datasheet)", 17 ~{WR} (in) "Write input, active low. This active low signal, in combination with others is used in loading external data into the AD7948 input register and in transferring data from the input register to the DAC register.", 18 VDD (power) "Power supply input. This is nominally +5 V for Normal Mode Operation and +3.3 V to +5 V for Biased Mode Operation.", 19 VREF (in) "DAC reference input.", 20 RFB (in) "DAC feedback resistor pin."

## AD7948BR-REEL
designator U?
Single 12-Bit Multiplying Digital-to-Analog Converter, 3.3 V / 5 V, -40 to +85 degC, RW-20, Reel; Generic Part Number: AD7948; Manufacturer: Analog Devices; PartNumber: AD7948BR-REEL; # DAC Outputs: 1; Max V+: 5.5V; Op Pwr Diss: 25µW; Resolution (Bits): 12; Settling Time: 600ns; Single Supply: Yes; DatasheetVersion: Rev.B; PackageVersion: 060706-A; PackageReference: RW-20; PackageDescription: 20-Lead Standard Small Outline Package [SOIC_W] Wide Body; Supplier 1: Mouser; Supplier Part Number 1: N/A; Packing: Reel; RoHS: N; Mounting Technology: Surface Mount; Code_JEDEC: MS-013-AC; ComponentLink1Description: Manufacturer URL; ComponentLink1URL: http://www.analog.com/en/index.html; ComponentLink2Description: Datasheet; ComponentLink2URL: http://www.analog.com/static/imported-files/data_sheets/AD7943_7945_7948.pdf; ComponentLink3Description: Package Specification; ComponentLink3URL: http://www.analog.com/static/imported-files/packages/233848RW_20.pdf; ComponentLink4Description: Product URL; ComponentLink4URL: http://www.analog.com/en/digital-to-analog-converters/da-converters/ad7948/products/product.html
footprint RW-20_N (SOIC, 20-Leads, Body 12.8x7.5mm, Pitch 1.27mm, IPC Medium Density)
footprint RW-20_L (SOIC, 20-Leads, Body 12.8x7.5mm, Pitch 1.27mm, IPC High Density)
footprint RW-20_M (SOIC, 20-Leads, Body 12.8x7.5mm, Pitch 1.27mm, IPC Low Density)
pins: 1 IOUT1 (out) "DAC current output terminal 1. Normally terminated at the virtual ground of output amplifier.", 2 AGND (power) "Analog Ground Pin. This pin connects to the back gates of the current steering switches. The DAC IOUT2 terminal is also connected internally to this point.", 3 DGND (power) "Digital Ground Pin.", 4 ~{CSMSB} (in) "Chip Select Most Significant Byte. Active Low Input. Used in combination with W\R\ to load external data into the input register or in combination with L\D\A\C\ and W\R\ to load external data into both input and DAC (See Datasheet)", 5 DF/~{DOR} (in) "Data Format/Data Override. When this input is low, data in the DAC register is forced to one of two override codes selected by CTRL. When the override signal is removed, the DAC output returns to reflect the value in the DAC (See Datasheet)", 6 CTRL (in) "Control Input. See DF/D\O\R\ description.", 7 DB7 (MSB) (in) "Digital Data Input", 8 DB6 (in) "Digital Data Input", 9 DB5 (in) "Digital Data Input", 10 DB4 (in) "Digital Data Input", 11 DB3 (in) "Digital Data Input", 12 DB2 (in) "Digital Data Input", 13 DB1 (in) "Digital Data Input", 14 DB0 (LSB) (in) "Digital Data Input", 15 ~{LDAC} (in) "Load DAC input, active low. This signal, in combination with others, is used to load the DAC register from either the input register or the external data bus.", 16 ~{CSLSB} (in) "Chip Select Least Significant (LS) Byte. Active Low Input. Used in combination with W\R\ to load external data into the input register or in combination with W\R\ and L\D\A\C\ to load external data into both input and DAC (See Datasheet)", 17 ~{WR} (in) "Write input, active low. This active low signal, in combination with others is used in loading external data into the AD7948 input register and in transferring data from the input register to the DAC register.", 18 VDD (power) "Power supply input. This is nominally +5 V for Normal Mode Operation and +3.3 V to +5 V for Biased Mode Operation.", 19 VREF (in) "DAC reference input.", 20 RFB (in) "DAC feedback resistor pin."

## AD7948BRSZ
designator U?
Single 12-Bit Multiplying Digital-to-Analog Converter, 3.3 V / 5 V, -40 to +85 degC, RS-20, Pb-Free, Tube; Generic Part Number: AD7948; Manufacturer: Analog Devices; PartNumber: AD7948BRSZ; # DAC Outputs: 1; Max V+: 5.5V; Op Pwr Diss: 25µW; Resolution (Bits): 12; Settling Time: 600ns; Single Supply: Yes; DatasheetVersion: Rev.B; PackageVersion: Mar-2003; PackageReference: RS-20; PackageDescription: 20-Lead Shrink Small Outline Package [SSOP]; Supplier 1: Digi-Key; Supplier Part Number 1: AD7948BRSZ-ND; Supplier 2: Mouser; Supplier Part Number 2: 584-AD7948BRSZ; Packing: Tube; RoHS: Y; Mounting Technology: Surface Mount; Code_JEDEC: MO-150AE; ComponentLink1Description: Manufacturer URL; ComponentLink1URL: http://www.analog.com/en/index.html; ComponentLink2Description: Datasheet; ComponentLink2URL: http://www.analog.com/static/imported-files/data_sheets/AD7943_7945_7948.pdf; ComponentLink3Description: Package Specification; ComponentLink3URL: http://www.analog.com/static/imported-files/packages/318405805657546556503576154334802686596RS_20.pdf; ComponentLink4Description: Product URL; ComponentLink4URL: http://www.analog.com/en/digital-to-analog-converters/da-converters/ad7948/products/product.html
footprint RS-20_N (SOP, 20-Leads, Body 7.2x5.3mm, Pitch 0.65mm, IPC Medium Density)
footprint RS-20_L (SOP, 20-Leads, Body 7.2x5.3mm, Pitch 0.65mm, IPC High Density)
footprint RS-20_M (SOP, 20-Leads, Body 7.2x5.3mm, Pitch 0.65mm, IPC Low Density)
pins: 1 IOUT1 (out) "DAC current output terminal 1. Normally terminated at the virtual ground of output amplifier.", 2 AGND (power) "Analog Ground Pin. This pin connects to the back gates of the current steering switches. The DAC IOUT2 terminal is also connected internally to this point.", 3 DGND (power) "Digital Ground Pin.", 4 ~{CSMSB} (in) "Chip Select Most Significant Byte. Active Low Input. Used in combination with W\R\ to load external data into the input register or in combination with L\D\A\C\ and W\R\ to load external data into both input and DAC (See Datasheet)", 5 DF/~{DOR} (in) "Data Format/Data Override. When this input is low, data in the DAC register is forced to one of two override codes selected by CTRL. When the override signal is removed, the DAC output returns to reflect the value in the DAC (See Datasheet)", 6 CTRL (in) "Control Input. See DF/D\O\R\ description.", 7 DB7 (MSB) (in) "Digital Data Input", 8 DB6 (in) "Digital Data Input", 9 DB5 (in) "Digital Data Input", 10 DB4 (in) "Digital Data Input", 11 DB3 (in) "Digital Data Input", 12 DB2 (in) "Digital Data Input", 13 DB1 (in) "Digital Data Input", 14 DB0 (LSB) (in) "Digital Data Input", 15 ~{LDAC} (in) "Load DAC input, active low. This signal, in combination with others, is used to load the DAC register from either the input register or the external data bus.", 16 ~{CSLSB} (in) "Chip Select Least Significant (LS) Byte. Active Low Input. Used in combination with W\R\ to load external data into the input register or in combination with W\R\ and L\D\A\C\ to load external data into both input and DAC (See Datasheet)", 17 ~{WR} (in) "Write input, active low. This active low signal, in combination with others is used in loading external data into the AD7948 input register and in transferring data from the input register to the DAC register.", 18 VDD (power) "Power supply input. This is nominally +5 V for Normal Mode Operation and +3.3 V to +5 V for Biased Mode Operation.", 19 VREF (in) "DAC reference input.", 20 RFB (in) "DAC feedback resistor pin."

## AD7948BRSZ-REEL
designator U?
Single 12-Bit Multiplying Digital-to-Analog Converter, 3.3 V / 5 V, -40 to +85 degC, RS-20, Pb-Free, Reel; Generic Part Number: AD7948; Manufacturer: Analog Devices; PartNumber: AD7948BRSZ-REEL; # DAC Outputs: 1; Max V+: 5.5V; Op Pwr Diss: 25µW; Resolution (Bits): 12; Settling Time: 600ns; Single Supply: Yes; DatasheetVersion: Rev.B; PackageVersion: Mar-2003; PackageReference: RS-20; PackageDescription: 20-Lead Shrink Small Outline Package [SSOP]; Supplier 1: Digi-Key; Supplier Part Number 1: AD7948BRSZ-REEL-ND; Supplier 2: Mouser; Supplier Part Number 2: 584-AD7948BRSZ-R; Packing: Reel; RoHS: Y; Mounting Technology: Surface Mount; Code_JEDEC: MO-150AE; ComponentLink1Description: Manufacturer URL; ComponentLink1URL: http://www.analog.com/en/index.html; ComponentLink2Description: Datasheet; ComponentLink2URL: http://www.analog.com/static/imported-files/data_sheets/AD7943_7945_7948.pdf; ComponentLink3Description: Package Specification; ComponentLink3URL: http://www.analog.com/static/imported-files/packages/318405805657546556503576154334802686596RS_20.pdf; ComponentLink4Description: Product URL; ComponentLink4URL: http://www.analog.com/en/digital-to-analog-converters/da-converters/ad7948/products/product.html
footprint RS-20_N (SOP, 20-Leads, Body 7.2x5.3mm, Pitch 0.65mm, IPC Medium Density)
footprint RS-20_L (SOP, 20-Leads, Body 7.2x5.3mm, Pitch 0.65mm, IPC High Density)
footprint RS-20_M (SOP, 20-Leads, Body 7.2x5.3mm, Pitch 0.65mm, IPC Low Density)
pins: 1 IOUT1 (out) "DAC current output terminal 1. Normally terminated at the virtual ground of output amplifier.", 2 AGND (power) "Analog Ground Pin. This pin connects to the back gates of the current steering switches. The DAC IOUT2 terminal is also connected internally to this point.", 3 DGND (power) "Digital Ground Pin.", 4 ~{CSMSB} (in) "Chip Select Most Significant Byte. Active Low Input. Used in combination with W\R\ to load external data into the input register or in combination with L\D\A\C\ and W\R\ to load external data into both input and DAC (See Datasheet)", 5 DF/~{DOR} (in) "Data Format/Data Override. When this input is low, data in the DAC register is forced to one of two override codes selected by CTRL. When the override signal is removed, the DAC output returns to reflect the value in the DAC (See Datasheet)", 6 CTRL (in) "Control Input. See DF/D\O\R\ description.", 7 DB7 (MSB) (in) "Digital Data Input", 8 DB6 (in) "Digital Data Input", 9 DB5 (in) "Digital Data Input", 10 DB4 (in) "Digital Data Input", 11 DB3 (in) "Digital Data Input", 12 DB2 (in) "Digital Data Input", 13 DB1 (in) "Digital Data Input", 14 DB0 (LSB) (in) "Digital Data Input", 15 ~{LDAC} (in) "Load DAC input, active low. This signal, in combination with others, is used to load the DAC register from either the input register or the external data bus.", 16 ~{CSLSB} (in) "Chip Select Least Significant (LS) Byte. Active Low Input. Used in combination with W\R\ to load external data into the input register or in combination with W\R\ and L\D\A\C\ to load external data into both input and DAC (See Datasheet)", 17 ~{WR} (in) "Write input, active low. This active low signal, in combination with others is used in loading external data into the AD7948 input register and in transferring data from the input register to the DAC register.", 18 VDD (power) "Power supply input. This is nominally +5 V for Normal Mode Operation and +3.3 V to +5 V for Biased Mode Operation.", 19 VREF (in) "DAC reference input.", 20 RFB (in) "DAC feedback resistor pin."

## AD7948BRZ
designator U?
Single 12-Bit Multiplying Digital-to-Analog Converter, 3.3 V / 5 V, -40 to +85 degC, RW-20, Pb-Free, Tube; Generic Part Number: AD7948; Manufacturer: Analog Devices; PartNumber: AD7948BRZ; # DAC Outputs: 1; Max V+: 5.5V; Op Pwr Diss: 25µW; Resolution (Bits): 12; Settling Time: 600ns; Single Supply: Yes; DatasheetVersion: Rev.B; PackageVersion: 060706-A; PackageReference: RW-20; PackageDescription: 20-Lead Standard Small Outline Package [SOIC_W] Wide Body; Supplier 1: Digi-Key; Supplier Part Number 1: AD7948BRZ-ND; Supplier 2: Newark; Supplier Part Number 2: 59K6083; Supplier 3: Mouser; Supplier Part Number 3: 584-AD7948BRZ; Packing: Tube; RoHS: Y; Mounting Technology: Surface Mount; Code_JEDEC: MS-013-AC; ComponentLink1Description: Manufacturer URL; ComponentLink1URL: http://www.analog.com/en/index.html; ComponentLink2Description: Datasheet; ComponentLink2URL: http://www.analog.com/static/imported-files/data_sheets/AD7943_7945_7948.pdf; ComponentLink3Description: Package Specification; ComponentLink3URL: http://www.analog.com/static/imported-files/packages/233848RW_20.pdf; ComponentLink4Description: Product URL; ComponentLink4URL: http://www.analog.com/en/digital-to-analog-converters/da-converters/ad7948/products/product.html
footprint RW-20_N (SOIC, 20-Leads, Body 12.8x7.5mm, Pitch 1.27mm, IPC Medium Density)
footprint RW-20_L (SOIC, 20-Leads, Body 12.8x7.5mm, Pitch 1.27mm, IPC High Density)
footprint RW-20_M (SOIC, 20-Leads, Body 12.8x7.5mm, Pitch 1.27mm, IPC Low Density)
pins: 1 IOUT1 (out) "DAC current output terminal 1. Normally terminated at the virtual ground of output amplifier.", 2 AGND (power) "Analog Ground Pin. This pin connects to the back gates of the current steering switches. The DAC IOUT2 terminal is also connected internally to this point.", 3 DGND (power) "Digital Ground Pin.", 4 ~{CSMSB} (in) "Chip Select Most Significant Byte. Active Low Input. Used in combination with W\R\ to load external data into the input register or in combination with L\D\A\C\ and W\R\ to load external data into both input and DAC (See Datasheet)", 5 DF/~{DOR} (in) "Data Format/Data Override. When this input is low, data in the DAC register is forced to one of two override codes selected by CTRL. When the override signal is removed, the DAC output returns to reflect the value in the DAC (See Datasheet)", 6 CTRL (in) "Control Input. See DF/D\O\R\ description.", 7 DB7 (MSB) (in) "Digital Data Input", 8 DB6 (in) "Digital Data Input", 9 DB5 (in) "Digital Data Input", 10 DB4 (in) "Digital Data Input", 11 DB3 (in) "Digital Data Input", 12 DB2 (in) "Digital Data Input", 13 DB1 (in) "Digital Data Input", 14 DB0 (LSB) (in) "Digital Data Input", 15 ~{LDAC} (in) "Load DAC input, active low. This signal, in combination with others, is used to load the DAC register from either the input register or the external data bus.", 16 ~{CSLSB} (in) "Chip Select Least Significant (LS) Byte. Active Low Input. Used in combination with W\R\ to load external data into the input register or in combination with W\R\ and L\D\A\C\ to load external data into both input and DAC (See Datasheet)", 17 ~{WR} (in) "Write input, active low. This active low signal, in combination with others is used in loading external data into the AD7948 input register and in transferring data from the input register to the DAC register.", 18 VDD (power) "Power supply input. This is nominally +5 V for Normal Mode Operation and +3.3 V to +5 V for Biased Mode Operation.", 19 VREF (in) "DAC reference input.", 20 RFB (in) "DAC feedback resistor pin."

## AD7948BRZ-REEL
designator U?
Single 12-Bit Multiplying Digital-to-Analog Converter, 3.3 V / 5 V, -40 to +85 degC, RW-20, Pb-Free, Reel; Generic Part Number: AD7948; Manufacturer: Analog Devices; PartNumber: AD7948BRZ-REEL; # DAC Outputs: 1; Max V+: 5.5V; Op Pwr Diss: 25µW; Resolution (Bits): 12; Settling Time: 600ns; Single Supply: Yes; DatasheetVersion: Rev.B; PackageVersion: 060706-A; PackageReference: RW-20; PackageDescription: 20-Lead Standard Small Outline Package [SOIC_W] Wide Body; Supplier 1: Digi-Key; Supplier Part Number 1: AD7948BRZ-REEL-ND; Supplier 2: Mouser; Supplier Part Number 2: 584-AD7948BRZ-R; Packing: Reel; RoHS: Y; Mounting Technology: Surface Mount; Code_JEDEC: MS-013-AC; ComponentLink1Description: Manufacturer URL; ComponentLink1URL: http://www.analog.com/en/index.html; ComponentLink2Description: Datasheet; ComponentLink2URL: http://www.analog.com/static/imported-files/data_sheets/AD7943_7945_7948.pdf; ComponentLink3Description: Package Specification; ComponentLink3URL: http://www.analog.com/static/imported-files/packages/233848RW_20.pdf; ComponentLink4Description: Product URL; ComponentLink4URL: http://www.analog.com/en/digital-to-analog-converters/da-converters/ad7948/products/product.html
footprint RW-20_N (SOIC, 20-Leads, Body 12.8x7.5mm, Pitch 1.27mm, IPC Medium Density)
footprint RW-20_L (SOIC, 20-Leads, Body 12.8x7.5mm, Pitch 1.27mm, IPC High Density)
footprint RW-20_M (SOIC, 20-Leads, Body 12.8x7.5mm, Pitch 1.27mm, IPC Low Density)
pins: 1 IOUT1 (out) "DAC current output terminal 1. Normally terminated at the virtual ground of output amplifier.", 2 AGND (power) "Analog Ground Pin. This pin connects to the back gates of the current steering switches. The DAC IOUT2 terminal is also connected internally to this point.", 3 DGND (power) "Digital Ground Pin.", 4 ~{CSMSB} (in) "Chip Select Most Significant Byte. Active Low Input. Used in combination with W\R\ to load external data into the input register or in combination with L\D\A\C\ and W\R\ to load external data into both input and DAC (See Datasheet)", 5 DF/~{DOR} (in) "Data Format/Data Override. When this input is low, data in the DAC register is forced to one of two override codes selected by CTRL. When the override signal is removed, the DAC output returns to reflect the value in the DAC (See Datasheet)", 6 CTRL (in) "Control Input. See DF/D\O\R\ description.", 7 DB7 (MSB) (in) "Digital Data Input", 8 DB6 (in) "Digital Data Input", 9 DB5 (in) "Digital Data Input", 10 DB4 (in) "Digital Data Input", 11 DB3 (in) "Digital Data Input", 12 DB2 (in) "Digital Data Input", 13 DB1 (in) "Digital Data Input", 14 DB0 (LSB) (in) "Digital Data Input", 15 ~{LDAC} (in) "Load DAC input, active low. This signal, in combination with others, is used to load the DAC register from either the input register or the external data bus.", 16 ~{CSLSB} (in) "Chip Select Least Significant (LS) Byte. Active Low Input. Used in combination with W\R\ to load external data into the input register or in combination with W\R\ and L\D\A\C\ to load external data into both input and DAC (See Datasheet)", 17 ~{WR} (in) "Write input, active low. This active low signal, in combination with others is used in loading external data into the AD7948 input register and in transferring data from the input register to the DAC register.", 18 VDD (power) "Power supply input. This is nominally +5 V for Normal Mode Operation and +3.3 V to +5 V for Biased Mode Operation.", 19 VREF (in) "DAC reference input.", 20 RFB (in) "DAC feedback resistor pin."